# EAGLE library part LTC3423 (library PowerProducts)
LT-Spice library generated with : ltspice.ulp from: D:/Program Files (x86)/LTC/LTspiceIV/lib/sym/PowerProducts/LTC3426*.asy at 07.10.2012 18:08:02
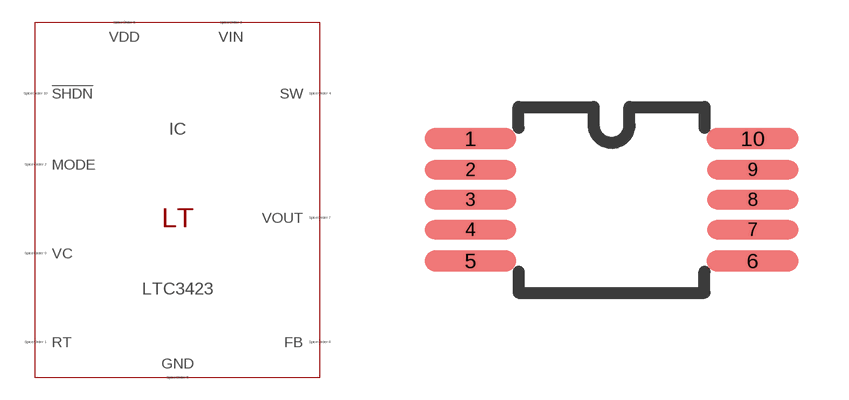
[diagram p181: symbol with the pads of MSOP10(MS); footprint MSOP10(MS)]

Designator prefix IC

## LTC3423 (SPICEMODEL: LTC3423.sub; SPICEPREFIX: X; VALUE2: LTC3423)  [MSOP10(MS)]
1  RT  pas
2  MODE  pas
3  VIN  pas
4  SW  pas
5  GND  pas
6  VDD  pas
7  VOUT  pas
8  FB  pas
9  VC  pas
10  !SHDN  pas

## Footprint MSOP10(MS) (pad centres in mm)
Package generated from: MSOP10(MS).asc (!PADS-POWERPCB-V5.0-BASIC! DESIGN DATABASE ASCII FILE 1.0) with :import-pads-powerpcb-v5.ulp Version 1.0.1 at 04.10.2012 14:11:19
smd 2.295 x 0.54: 1 -3.529,1.53; 5 -3.529,-1.53; 6 3.529,-1.53; 10 3.529,1.53
smd 2.295 x 0.48: 2 -3.529,0.75; 3 -3.529,0; 4 -3.529,-0.75; 7 3.529,-0.75; 8 3.529,0; 9 3.529,0.75